# EAGLE library part SCA3100-D04 (library khr_lib4)
SCA3100-D04 3-axis accelerometer by MURATA. https://www.murata.com/~/media/webrenewal/products/sensor/accel/selectionguide/sca3100-d04.ashx
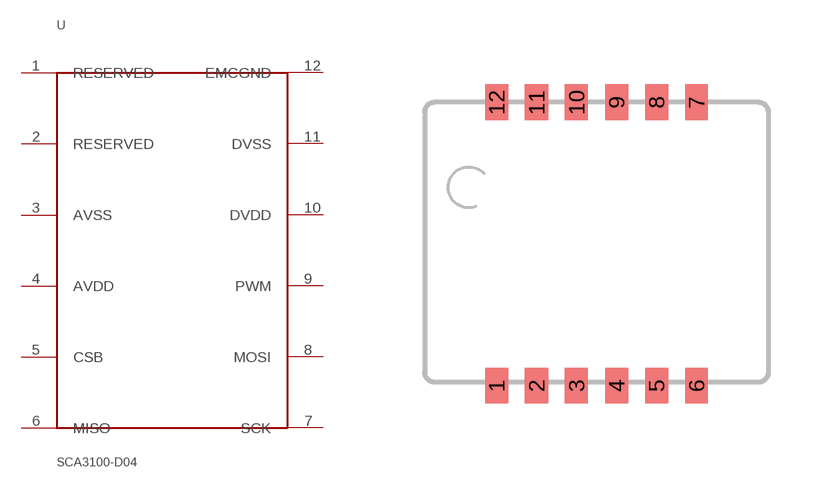
[diagram p1: symbol with the pads of SCA3100-D04; footprint SCA3100-D04]

Designator prefix -

## SCA3100-D04  [SCA3100-D04]
1  RESERVED
2  RESERVED
3  AVSS  pwr
4  AVDD  pwr
5  CSB
6  MISO
7  SCK
8  MOSI
9  PWM
10  DVDD  pwr
11  DVSS  pwr
12  EMCGND

## Footprint SCA3100-D04 (pad centres in mm)
3-axis accelerometer from Murata
smd 0.575 x 0.897: 1 1.8,-0.09; 2 2.8,-0.09; 3 3.8,-0.09; 4 4.8,-0.09; 5 5.8,-0.09; 6 6.8,-0.09; 7 6.8,7; 8 5.8,7; 9 4.8,7; 10 3.8,7; 11 2.8,7; 12 1.8,7